# Altium footprint library LED_SMD.PcbLib: 18 footprints (part 2 of 2)
Each footprint in its own frame and in the unit in brackets; x right, y up, seen from the top. Pads: shape width x height; smd on the part's side, far side on the other; paste and mask are expansions set on the pad; w line width, h text height; cw(c..) or ccw(c..) is an arc to the next point about the centre after c.
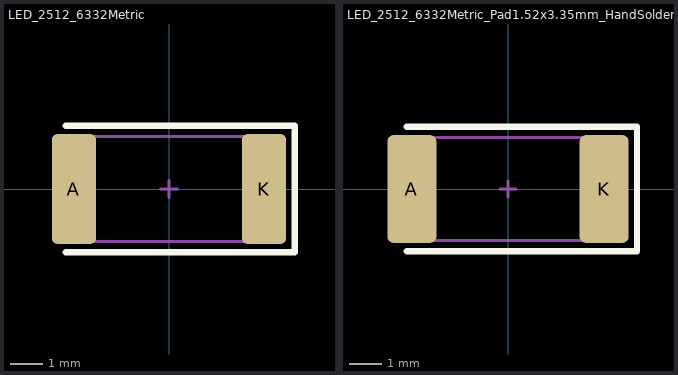
[diagram p1: the footprints below, top view; thin cyan lines are the x and y axes]

## LED_2512_6332Metric [mm] "LED 2512 (6332 Metric)"
pads (2):
  rrect25% 1.35x3.35 smd mask+0.05: A(-2.9,0) K(2.9,0)
Top Overlay:
  lines w0.2: -3.15,-1.935 3.835,-1.935 3.835,1.935 -3.15,1.935
Top Assembly:
  rectangle: 2.6,-1.6 3.4,1.6
  lines w0.1: -3.4,-1.6 -3.4,1.6 3.4,1.6 3.4,-1.6 -3.4,-1.6
Top Component Center:
  lines w0.1: -0.25,0 0.25,0 ; 0,-0.25 0,0.25
Top Designator:
  text ".Designator" at -7.618,-0.508 h1.52
3D body "LED_2512_6332Metric_Castellated.step": height 2.01, standoff 0.01, extent -3.15,-1.6 3.15,1.6

## LED_2512_6332Metric_Pad1.52x3.35mm_HandSolder [mm] "LED 2512 (6332 Metric)  Pad1.52x3.35mm Hand Solder"
pads (2):
  rrect25% 1.525x3.35 smd mask+0.05: A(-2.987,0) K(2.987,0)
Top Overlay:
  lines w0.2: -3.15,-1.935 4.01,-1.935 4.01,1.935 -3.15,1.935
Top Assembly:
  rectangle: 2.6,-1.6 3.6,1.6
  lines w0.1: -3.6,-1.6 -3.6,1.6 3.6,1.6 3.6,-1.6 -3.6,-1.6
Top Component Center:
  lines w0.1: -0.25,0 0.25,0 ; 0,-0.25 0,0.25
Top Designator:
  text ".Designator" at -7.618,-0.508 h1.52
3D body "LED_2512_6332Metric_Castellated.step": height 2.01, standoff 0.01, extent -3.15,-1.6 3.15,1.6